# EAGLE library part PICKIT2HEADER (library custom)
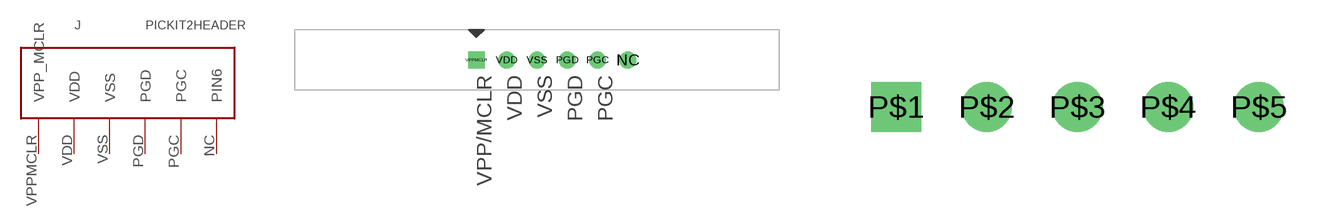
[diagram p2: symbol with the pads of PICKIT2HEADER; footprints PICKIT2HEADER, 1X05]

Designator prefix J

## PICKIT2HEADER  [PICKIT2HEADER]
NC  PIN6
PGC  PGC
PGD  PGD
VDD  VDD
VPPMCLR  VPP_MCLR
VSS  VSS

## PICKIT2HEADER.1HEADER  [1X05]
P$1  VPP_MCLR
P$2  VDD
P$3  VSS
P$4  PGD
P$5  PGC

## PICKIT2HEADERARROWONLY  [PICKIT2HEADER_ARROW]
Pads as for PICKIT2HEADER

## PICKIT2HEADERCARD-6  [HEADER06X02_CARD_.1]
Pads as for 1X05

## PICKIT2HEADERUSB_MINI  [USB_MINI_FEMALE_ED2992CT-ND]
P$1  VPP_MCLR
P$2  VDD
P$3  VSS
P$4  PGD
P$5  PGC
P$6  PIN6

## Footprint PICKIT2HEADER (pad centres in mm)
drill 0.9 round: NC 7.62,0; PGC 5.08,0; PGD 2.54,0; VDD -2.54,0; VSS 0,0
drill 0.9 square: VPPMCLR -5.08,0

## Footprint 1X05 (pad centres in mm)
drill 0.9 square: P$1 -5.08,0
drill 0.9 round: P$2 -2.54,0; P$3 0,0; P$4 2.54,0; P$5 5.08,0

## Footprint PICKIT2HEADER_ARROW (pad centres in mm)
drill 0.9 round: NC 6.35,0; PGC 3.81,0; PGD 1.27,0; VDD -3.81,0; VSS -1.27,0
drill 0.9 square: VPPMCLR -6.35,0

## Footprint HEADER06X02_CARD_.1 (pad centres in mm)
smd 1.651 x 7.62: P$1 -6.35,0; P$2 -3.81,0; P$3 -1.27,0; P$4 1.27,0; P$5 3.81,0; P$6 6.35,0
smd 1.651 x 7.62 bottom: P$7 6.35,0; P$8 3.81,0; P$9 1.27,0; P$10 -1.27,0; P$11 -3.81,0; P$12 -6.35,0

## Footprint USB_MINI_FEMALE_ED2992CT-ND (pad centres in mm)
smd 0.5 x 2.3: P$1 -1.6,-1.15; P$2 -0.8,-1.15; P$3 0,-1.15; P$4 0.8,-1.15; P$5 1.6,-1.15
smd 2 x 2.5: P$6 -4.45,-1.25; P$7 4.45,-1.25; P$8 -4.45,-6.75; P$9 4.45,-6.75
hole 1 at 2.2,-3.75
hole 1 at -2.2,-3.75